# EAGLE library part MCP2562 (library can)
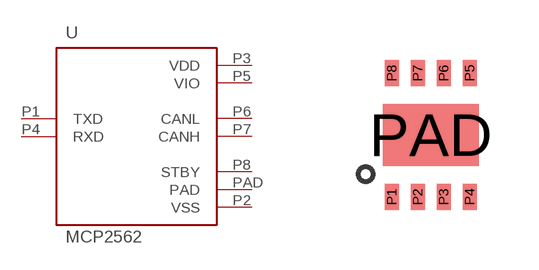
[diagram p3: symbol with the pads of DFN3X3; footprint DFN3X3]

Designator prefix U

## MCP2562  [DFN3X3]
P1  TXD
P2  VSS
P3  VDD
P4  RXD
P5  VIO
P6  CANL
P7  CANH
P8  STBY
PAD  PAD

## Footprint DFN3X3 (pad centres in mm)
smd 0.35 x 0.65: P1 -0.975,-1.55; P2 -0.325,-1.55; P3 0.325,-1.55; P4 0.975,-1.55; P5 0.975,1.55; P6 0.325,1.55; P7 -0.325,1.55; P8 -0.975,1.55
smd 2.4 x 1.55: PAD 0,0